# Altium footprint library 5019530507.PcbLib: 1 footprints
Each footprint in its own frame and in the unit in brackets; x right, y up, seen from the top. Pads: shape width x height; smd on the part's side, far side on the other; paste and mask are expansions set on the pad; w line width, h text height; cw(c..) or ccw(c..) is an arc to the next point about the centre after c.
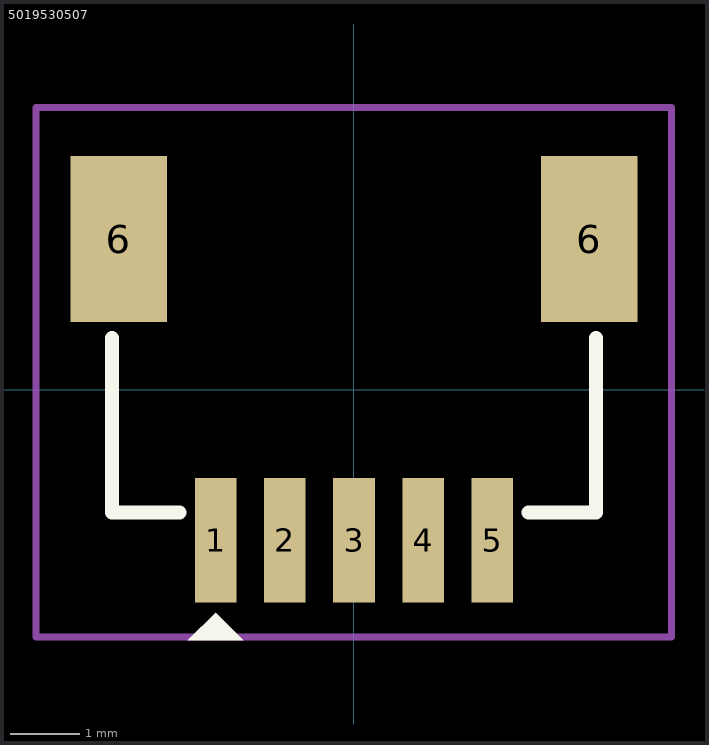
[diagram p0: the footprint, top view; thin cyan lines are the x and y axes]

## 5019530507 [mm]
pads (7):
  rect 0.6x1.8 smd: 1(-2,-2.175) 2(-1,-2.175) 3(0,-2.175) 4(1,-2.175) 5(2,-2.175)
  rect 1.4x2.4 smd: 6(-3.4,2.175) 6(3.4,2.175)
Top Overlay:
  region: -1.6,-3.625 -2.4,-3.625 -2,-3.225
  lines w0.2: -3.5,0.75 -3.5,-1.775 -2.525,-1.775 ; 2.525,-1.775 3.5,-1.775 3.5,0.75
Top Courtyard:
  lines w0.1: -4.6,0.975 -4.6,-3.575 ; -4.6,-3.575 -4.6,4.075 4.591,4.075 4.591,-3.575 -4.6,-3.575
3D body "5019530507.stp": height 4.75, standoff 0.05, extent -3.5,-2.325 3.5,3.575